# Altium schematic symbol library Schlib1.SchLib: 1 symbol
Pins are listed as number, name and electrical type; pins without a type are passive.

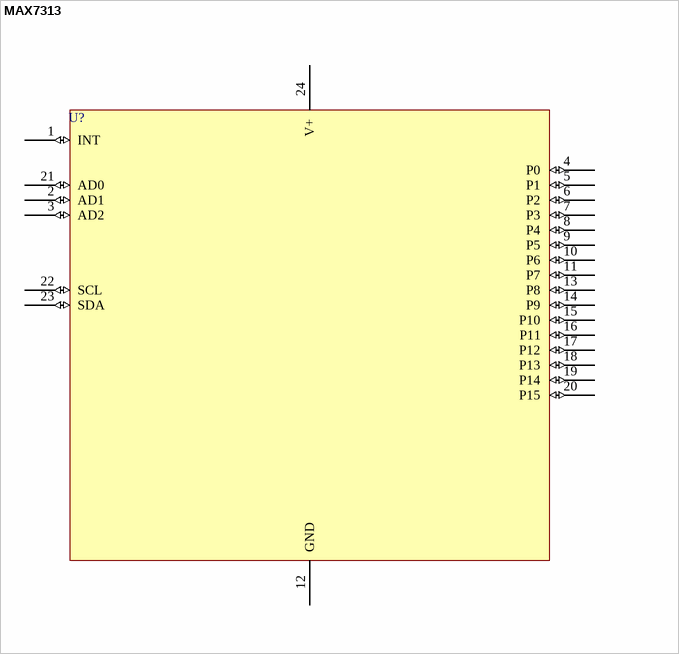
[diagram p0: symbol MAX7313]

## MAX7313
designator U?
footprint QSOP24
pins: 1 INT (io), 2 AD1 (io), 3 AD2 (io), 4 P0 (io), 5 P1 (io), 6 P2 (io), 7 P3 (io), 8 P4 (io), 9 P5 (io), 10 P6 (io), 11 P7 (io), 12 GND (power), 13 P8 (io), 14 P9 (io), 15 P10 (io), 16 P11 (io), 17 P12 (io), 18 P13 (io), 19 P14 (io), 20 P15 (io), 21 AD0 (io), 22 SCL (io), 23 SDA (io), 24 V+ (power)